# Altium schematic symbol library Fei-Fei_Power_Distro_V0.4.SchLib: 28 symbols
Pins are listed as number, name and electrical type; pins without a type are passive.

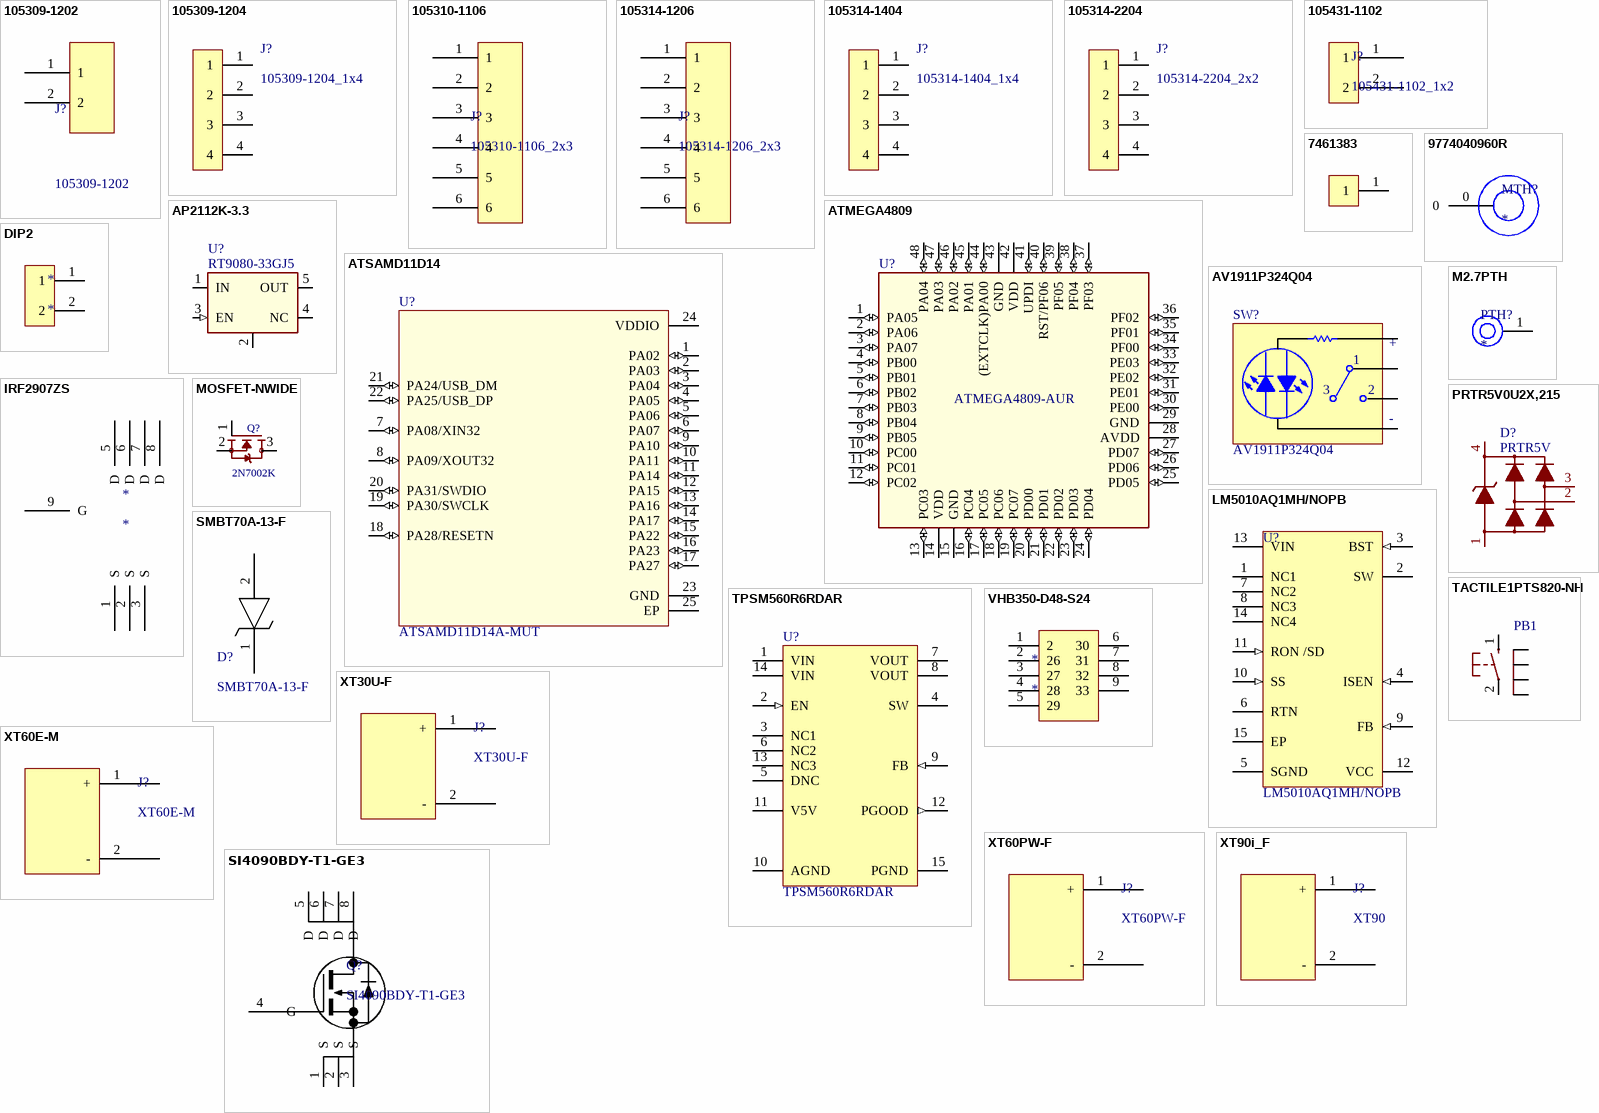
[diagram p0: symbols 105309-1202 to ‎SI4090BDY-T1-GE3‎]

## 105309-1202
designator J?
Nano-Fit Vertical Header Through Hole 2.50mm Pitch Single Row 2 Circuits with Kinked Pins 0.38; Manufacturer: Molex; Plating: Tin; Supplier 1: Digi-Key; Manufacturer Part Number: 105309-1202; RoHS: Yes; Stock 1: 190; Pricing 1: 1=1.79000, 10=1.71600, 50=1.50700, 100=1.40200 (USD); REACH SVHC: Unknown; Supplier Part Number 1: 732-7092-1-ND; Supplier 2: RSComponents; Stock 2: 1; Pricing 2: 10=0.85900 (USD); Mount: Through Hole; Contact Plating: Gold; Termination: Through Hole; Number of Rows: 1; Supplier Part Number 2: 1225076
footprint 105309-1202
pins: 1 (power), 2 (power)

## 105309-1204
designator J?, comment 105309-1204_1x4
MOLEX - 105309-1204 - CONNECTOR, HEADER, 4POS, 1ROW, 2.5MM; Gender: Male; Supplier 1: RSComponents; Manufacturer: Molex; Manufacturer Part Number: 105309-1204; Stock 1: 170; Pricing 1: 10 = 1.23200, 50 = 0.81900, 100 = 0.74700, 150 = 0.70800, 250 = 0.67400 (GBP); RoHS: No; Mount: Through Hole; Number of Pins: 4; Contact Plating: Gold; Contact Material: Brass; Color: Black; Termination: Through Hole; Number of Rows: 1; REACH SVHC: Unknown; ComponentLink1URL: http://farnell.com//datasheets/2221349.pdf?src-supplier=Farnell; ComponentLink1Description: http://farnell.com//datasheets/2221349.pdf?src-supplier=Farnell; ComponentLink2URL: http://www.farnell.com/datasheets/2059602.pdf?src-supplier=Element14; ComponentLink2Description: http://www.farnell.com/datasheets/2059602.pdf?src-supplier=Element14; ComponentLink3URL: http://www.farnell.com/datasheets/2221349.pdf?src-supplier=Newark; ComponentLink3Description: http://www.farnell.com/datasheets/2221349.pdf?src-supplier=Newark; ComponentLink4URL: http://www.literature.molex.com/SQLImages/kelmscott/Molex/PDF_Images/987651-1223.PDF?src-supplier=Digi-Key; ComponentLink4Description: http://www.literature.molex.com/SQLImages/kelmscott/Molex/PDF_Images/987651-1223.PDF?src-supplier=Digi-Key; Supplier Part Number 1: 1225078; Category: Connectors
footprint 105309-1204
pins: 1, 2, 3, 4

## 105310-1106
designator J?, comment 105310-1106_2x3
Nano-Fit Right Angle Header; Through Hole; 2.50mm; Dual Row; 6 Circuit; Gold Plating; Manufacturer: Molex; Gender: Male; Supplier 1: Digi-Key; Manufacturer Part Number: 105310-1106; RoHS: No; Category: Headers and Wire Housings; Stock 1: 10981; Pricing 1: 1=2.15000, 10=1.83000, 204=1.51162, 1020=1.19338, 5100=1.05813 (USD); Mount: Through Hole; Contact Plating: Gold; Contact Material: Brass; Color: Black; Termination: Through Hole; Number of Rows: 2; REACH SVHC: Unknown; ComponentLink1URL: http://www.farnell.com/datasheets/2221464.pdf?src-supplier=Farnell; ComponentLink1Description: http://www.farnell.com/datasheets/2221464.pdf?src-supplier=Farnell; ComponentLink2URL: http://www.farnell.com/datasheets/2221464.pdf?src-supplier=Element14; ComponentLink2Description: http://www.farnell.com/datasheets/2221464.pdf?src-supplier=Element14; ComponentLink3URL: http://www.farnell.com/datasheets/2221464.pdf?src-supplier=Newark; ComponentLink3Description: http://www.farnell.com/datasheets/2221464.pdf?src-supplier=Newark; ComponentLink4URL: https://www.molex.com/pdm_docs/ps/PS-105300-100-001.pdf?src-supplier=Digi-Key; ComponentLink4Description: https://www.molex.com/pdm_docs/ps/PS-105300-100-001.pdf?src-supplier=Digi-Key; Supplier Part Number 1: WM14977-ND
footprint 105310-1106
pins: 1, 2, 3, 4, 5, 6

## 105314-1206
designator J?, comment 105314-1206_2x3
Nano-Fit Right Angle Header; Through Hole; 2.50mm; Dual Row; 6 Circuit; Gold Plating; Manufacturer: Molex; Gender: Male; Supplier 1: Digi-Key; Manufacturer Part Number: 105314-1206; RoHS: No; Category: Headers and Wire Housings; Stock 1: 10981; Pricing 1: 1=2.15000, 10=1.83000, 204=1.51162, 1020=1.19338, 5100=1.05813 (USD); Mount: Through Hole; Contact Plating: Gold; Contact Material: Brass; Color: Black; Termination: Through Hole; Number of Rows: 2; REACH SVHC: Unknown; ComponentLink1URL: http://www.farnell.com/datasheets/2221464.pdf?src-supplier=Farnell; ComponentLink1Description: http://www.farnell.com/datasheets/2221464.pdf?src-supplier=Farnell; ComponentLink2URL: http://www.farnell.com/datasheets/2221464.pdf?src-supplier=Element14; ComponentLink2Description: http://www.farnell.com/datasheets/2221464.pdf?src-supplier=Element14; ComponentLink3URL: http://www.farnell.com/datasheets/2221464.pdf?src-supplier=Newark; ComponentLink3Description: http://www.farnell.com/datasheets/2221464.pdf?src-supplier=Newark; ComponentLink4URL: https://www.molex.com/pdm_docs/ps/PS-105300-100-001.pdf?src-supplier=Digi-Key; ComponentLink4Description: https://www.molex.com/pdm_docs/ps/PS-105300-100-001.pdf?src-supplier=Digi-Key; Supplier Part Number 1: WM14977-ND
footprint 105314-1206
pins: 1, 2, 3, 4, 5, 6

## 105314-1404
designator J?, comment 105314-1404_1x4
Manufacturer: Molex; Manufacturer Part Number: 105309-1204; Gender: Male; RoHS: No; Mount: Through Hole; Number of Pins: 4; Contact Plating: Gold; Contact Material: Brass; Color: Black; Termination: Through Hole; Number of Rows: 1; REACH SVHC: Unknown; Category: Connectors; ComponentLink1Description: Datasheet; ComponentLink1URL: https://www.molex.com/pdm_docs/sd/1053141404_sd.pdf
footprint 105314-1404
pins: 1, 2, 3, 4

## 105314-2204
designator J?, comment 105314-2204_2x2
Manufacturer: Molex; Gender: Male; Manufacturer Part Number: 105314-2204; RoHS: No; Mount: Through Hole; Number of Pins: 4; Contact Plating: Gold; Contact Material: Brass; Color: Black; Termination: Through Hole; Number of Rows: 1; REACH SVHC: Unknown; Category: Connectors; ComponentLink1Description: Datasheet; ComponentLink1URL: https://www.molex.com/pdm_docs/sd/1053141404_sd.pdf
footprint 105314-2204
pins: 1, 2, 3, 4

## 105431-1102
designator J?, comment 105431-1102_1x2
footprint 105431-1102
pins: 1, 2

## 7461383
designator T?  (value not drawn)
footprint 7461383
pins: 1

## 9774040960R
designator MTH?
Spacer Material: Steel Mounting: SMT Series: WA-SMST For ø: 3.3 mm; Manufacturer: Wurth Electronics; Manufacturer Part Number: 9774040960R; Plating: Tin; Threaded/Unthreaded: Unthreaded; Inside Diameter: 0.13inch; Outside Diameter: 0.236inch; Supplier 1: Digi-Key; RoHS: Yes; Category: Spacers, Standoffs; Stock 1: 190; Pricing 1: 1=1.79000, 10=1.71600, 50=1.50700, 100=1.40200 (USD); Material: Steel; Length: 0.213inch; REACH SVHC: Unknown; ComponentLink1URL: http://www.farnell.com/datasheets/1960394.pdf?src-supplier=Farnell; ComponentLink1Description: http://www.farnell.com/datasheets/1960394.pdf?src-supplier=Farnell; ComponentLink2URL: http://www.mouser.com/ds/2/445/9774040960R-611108.pdf?src-supplier=Mouser; ComponentLink2Description: http://www.mouser.com/ds/2/445/9774040960R-611108.pdf?src-supplier=Mouser; ComponentLink3URL: https://media.digikey.com/pdf/Data%20Sheets/Wurth%20Electronics%20PDFs/WA-SMSx_Performance_Flyer.pdf?src-supplier=Digi-Key; ComponentLink3Description: https://media.digikey.com/pdf/Data%20Sheets/Wurth%20Electronics%20PDFs/WA-SMSx_Performance_Flyer.pdf?src-supplier=Digi-Key; ComponentLink4URL: http://www.farnell.com/datasheets/1960394.pdf?src-supplier=Element14; ComponentLink4Description: http://www.farnell.com/datasheets/1960394.pdf?src-supplier=Element14; ComponentLink5URL: http://www.farnell.com/datasheets/1960394.pdf?src-supplier=Newark; ComponentLink5Description: http://www.farnell.com/datasheets/1960394.pdf?src-supplier=Newark; Supplier Part Number 1: 732-7092-1-ND
footprint 9774040960R
pins: 0

## AP2112K-3.3
designator U?, comment RT9080-33GJ5
IC REG LIN 3.3V 600MA TSOT23-5; MANUFACTURER: Richtek USA Inc.; Manufacturer Part Number: RT9080-33GJ5; Supplier 1: Digikey; Supplier Part Number 1: 1028-1509-1-ND; Value: RT9080-33GJ5
footprint TSOT-23-5 (Footprint not found)
pins: 1 IN (power), 2 GND/ADJ (power), 3 EN (in), 4 NC, 5 OUT (power)

## ATMEGA4809
designator U?, comment ATMEGA4809-AUR
IC MCU 8BIT 48KB FLASH 48TQFP; MANUFACTURER: Microchip; Alternate Part Number 1: ATMEGA4809-AFR; ComponentLink2Description: http://ww1.microchip.com/downloads/en/DeviceDoc/40002016A.pdf; Manufacturer Part Number: ATMEGA4809-AUR; Supplier Part Number 1: 150-ATMEGA4809-AURCT-ND; Value: ATMEGA4809; Supplier 1: Digikey
footprint TQFP_48 (Footprint not found)
pins: 1 PA05 (io), 2 PA06 (io), 3 PA07 (io), 4 PB00 (io), 5 PB01 (io), 6 PB02 (io), 7 PB03 (io), 8 PB04 (io), 9 PB05 (io), 10 PC00 (io), 11 PC01 (io), 12 PC02 (io), 13 PC03 (io), 14 VDD (power), 15 GND (power), 16 PC04 (io), 17 PC05 (io), 18 PC06 (io), 19 PC07 (io), 20 PD00 (io), 21 PD01 (io), 22 PD02 (io), 23 PD03 (io), 24 PD04 (io), 25 PD05 (io), 26 PD06 (io), 27 PD07 (io), 28 AVDD (power), 29 GND (power), 30 PE00 (io), 31 PE01 (io), 32 PE02 (io), 33 PE03 (io), 34 PF00 (io), 35 PF01 (io), 36 PF02 (io), 37 PF03 (io), 38 PF04 (io), 39 PF05 (io), 40 RST/PF06 (io), 41 UPDI (io), 42 VDD (power), 43 GND (power), 44 (EXTCLK)PA00 (io), 45 PA01 (io), 46 PA02 (io), 47 PA03 (io), 48 PA04 (io)

## ATSAMD11D14
designator U?, comment ATSAMD11D14A-MUT
IC MCU 32BIT 16KB FLASH 24QFN; MANUFACTURER: Microchip Technology; Manufacturer Part Number: ATSAMD11D14A-MUT; Supplier 1: Digikey; Supplier Part Number 1: ATSAMD11D14A-MUTCT-ND; Value: ATSAMD11D14A-MUT
footprint HVQFN24
pins: 1 PA02 (io), 2 PA03 (io), 3 PA04 (io), 4 PA05 (io), 5 PA06 (io), 6 PA07 (io), 7 PA08/XIN32 (io), 8 PA09/XOUT32 (io), 9 PA10 (io), 10 PA11 (io), 11 PA14 (io), 12 PA15 (io), 13 PA16 (io), 14 PA17 (io), 15 PA22 (io), 16 PA23 (io), 17 PA27 (io), 18 PA28/RESETN (io), 19 PA30/SWCLK (io), 20 PA31/SWDIO (io), 21 PA24/USB_DM (io), 22 PA25/USB_DP (io), 23 GND (power), 24 VDDIO (power), 25 EP (power)

## AV1911P324Q04
designator SW?  (mechanical)
SWITCH PUSHBUTTON SPDT 3A 250V; Manufacturer: TE Connectivity ALCOSWITCH Switches; Supplier 1: Mouser; Manufacturer Part Number: AV1911P324Q04; ComponentLink1URL: http://farnell.com//datasheets/2221349.pdf?src-supplier=Farnell; ComponentLink1Description: http://farnell.com//datasheets/2221349.pdf?src-supplier=Farnell; ComponentLink2URL: http://www.farnell.com/datasheets/2059602.pdf?src-supplier=Element14; ComponentLink2Description: http://www.farnell.com/datasheets/2059602.pdf?src-supplier=Element14; ComponentLink3URL: http://www.farnell.com/datasheets/2221349.pdf?src-supplier=Newark; ComponentLink3Description: http://www.farnell.com/datasheets/2221349.pdf?src-supplier=Newark; ComponentLink4URL: http://www.literature.molex.com/SQLImages/kelmscott/Molex/PDF_Images/987651-1223.PDF?src-supplier=Digi-Key; ComponentLink4Description: http://www.literature.molex.com/SQLImages/kelmscott/Molex/PDF_Images/987651-1223.PDF?src-supplier=Digi-Key; Value: AV1911P324Q04; Supplier Part Number 1: 506-AV1911P324Q04
text: +; 1; 3; 2; -

## DIP2
designator *
footprint DIP2
pins: 1, 2

## IRF2907ZS
designator *
pins: 1 S, 2 S, 3 S, 5 D, 6 D, 7 D, 8 D, 9 G

## LM5010AQ1MH/NOPB
designator U?
IC REG BUCK ADJ 1A 14HTSSOP; Manufacturer: Texas Instruments; Manufacturer Part Number: LM5010AQ1MH/NOPB; Supplier 1: Digikey; Supplier Part Number 1: LM5010AQ1MH/NOPB-ND; Value: LM5010AQ1MH/NOPB
footprint 14-HTSSOP (Footprint not found)
pins: 1 NC1, 2 SW, 3 BST (in), 4 ISEN (in), 5 SGND (power), 6 RTN, 7 NC2, 8 NC3, 9 FB (in), 10 SS (in), 11 RON /SD (in), 12 VCC (power), 13 VIN (power), 14 NC4, 15 EP

## M2.7PTH
designator PTH?
footprint M2.7PTH
pins: 1

## MOSFET-NWIDE
designator Q?, comment 2N7002K
MOSFET N-CH 60V 300MA SOT23; Manufacturer: onsemi; Value: 2N7002K; Manufacturer Part Number: 2N7002K; Supplier 1: Digikey; Supplier Part Number 1: 2N7002KCT-ND
footprint SOT-23-3 (Footprint not found)
pins: 1 G, 2 S, 3 D

## PRTR5V0U2X,215
designator D?, comment PRTR5V
TVS DIODE 5.5VWM SOT143B; MANUFACTURER: NXP; Manufacturer Part Number: PRTR5V0U2X,215; ComponentLink2Description: http://www.nxp.com/documents/data_sheet/PRTR5V0U2X.pdf; Supplier Part Number 1: 568-4140-1-ND; Value: PRTR5V; Supplier 1: Digikey
footprint SOT190P230X110-4N
pins: 1, 2, 3, 4

## SMBT70A-13-F
designator D?
SMBJ Series 70 V 600 W Surface Mount Uni-Directional TVS Diode - DO-214AA; Manufacturer: Diodes; Number of Terminals/Pins: 2; Package Body Material: Plastic; Diode Element Material: SILICON; Reverse Standoff Voltage: 70V; Clamping Voltage: 100V; Peak Pulse Power: 600W; Peak Pulse Current: 5.3A; Test Current: 1mA; Reverse Breakdown Voltage: 77.8V; Max Surge Current: 100A; Number of Elements: 1; Polarity: Unidirectional; Leakage Current: 5uA; Power Line Protection: No; Element Configuration: Single; Diode Type: ZENER; Max Breakdown Voltage: 89.5V; Forward Voltage: 3.5V; Capacitance: 290pF; Time @ Peak Reflow Temperature-Max (s): 30s; Supplier 1: Digi-Key; Manufacturer Part Number: SMBT70A-13-F; Stock 1: 0; Pricing 1: 1 = 0.66000, 10 = 0.56300, 100 = 0.42040, 500 = 0.33032, 1000 = 0.25526 (USD); RoHS: Yes; Mount: Surface Mount; Case/Package: SMB; Number of Pins: 2; Contact Plating: Tin,Matte; Terminal Finish: Tin; Package Shape: Rectangular; Min Operating Temperature: -55°C; Max Operating Temperature: 150°C; Package Quantity: 3000; Packaging: Tape and Reel; Min Breakdown Voltage: 77.8V; Breakdown Voltage: 77.8V; Termination: SMD/SMT; Working Voltage: 70V; Max Power Dissipation: 600W; Series: Automotive, AEC-Q101; Direction: Unidirectional; Number of Unidirectional Channels: 1; Max Reverse Leakage Current: 5uA; Resistor Type: Zener; Power Dissipation: 600W; ESD Protection: No; Clamping Voltage-Max: 100V; Max Output Current: 5.3A; Moisture Sensitivity Level: 1; JESD-30 Code: R-PDSO-C2; Surface Mount: Yes; Terminal Position: DUAL; Technology: AVALANCHE; Peak Reflow Temperature (Cel): 260°C; Terminal Form: C BEND; Length: 3.94mm; Width: 4.57mm; Height: 2.62mm; Radiation Hardening: No; RoHS Compliant: Yes; Lead Free: Lead Free; ComponentLink1URL: https://datasheet.ciiva.com/341/ds30213-341009.pdf?src-supplier=Digi-Key; ComponentLink1Description: https://datasheet.ciiva.com/341/ds30213-341009.pdf?src-supplier=Digi-Key; ComponentLink2URL: https://datasheet.ciiva.com/4511/ds30213-70999-4511094.pdf?src-supplier=Mouser; ComponentLink2Description: https://datasheet.ciiva.com/4511/ds30213-70999-4511094.pdf?src-supplier=Mouser; ComponentLink3URL: https://datasheet.ciiva.com/34302/1542506-34302445.pdf?src-supplier=Jameco; ComponentLink3Description: https://datasheet.ciiva.com/34302/1542506-34302445.pdf?src-supplier=Jameco; ComponentLink4URL: https://datasheet.ciiva.com/16487/ds30213-16487738.pdf?src-supplier=Future+Electronics; ComponentLink4Description: https://datasheet.ciiva.com/16487/ds30213-16487738.pdf?src-supplier=Future+Electronics; ComponentLink5URL: https://datasheet.ciiva.com/17412/ds30213-17412667.pdf?src-supplier=Avnet+Europe; ComponentLink5Description: https://datasheet.ciiva.com/17412/ds30213-17412667.pdf?src-supplier=Avnet+Europe; ComponentLink6URL: https://datasheet.ciiva.com/3021/ds30213-3021468.pdf?src-supplier=Avnet; ComponentLink6Description: https://datasheet.ciiva.com/3021/ds30213-3021468.pdf?src-supplier=Avnet; Supplier Part Number 1: SMBT70A-13-FDICT-ND
footprint SMBT70A-13-F
pins: 1, 2

## TACTILE1PTS820-NH
designator PB1, comment PTS820  (value not drawn)
Tactile Switch SPST-NO Top Actuated Surface Mount; MANUFACTURER: C&K; Manufacturer Part Number: PTS820 J25K SMTR LFS; ComponentLink2Description: http://www.ckswitches.com/media/1474/pts820.pdf; Supplier Part Number 1: PTS820 J25K SMTR LFS-ND; Value: PTS820; Supplier 1: Digikey
footprint C&K_PTS820_NO_HOLES
pins: 1, 2, 3 SH1 (power), 4 SH2 (power), 5 SH3 (power), 6 SH4 (power)

## TPSM560R6RDAR
designator U?
4.2-V TO 60-V INPUT, 1-V TO 6-V; Manufacturer: Texas Instruments; Manufacturer Part Number: TPSM560R6RDAR; Supplier 1: Digikey; Supplier Part Number 1: 296-TPSM560R6RDARCT-ND; Value: TPSM560R6RDAR
footprint 15-B3QFN (Footprint not found)
pins: 1 VIN (power), 2 EN (in), 3 NC1, 4 SW, 5 DNC, 6 NC2, 7 VOUT (power), 8 VOUT (power), 9 FB (in), 10 AGND (power), 11 V5V (power), 12 PGOOD (out), 13 NC3, 14 VIN (power), 15 PGND (power)

## VHB350-D48-S24
designator *
ComponentLink1Description: Datasheet; ComponentLink1URL: https://www.vishay.com/docs/63035/si4090bdy.pdf
footprint VHB350
pins: 1 2, 2 26, 3 27, 4 28, 5 29, 6 30, 7 31, 8 32, 9 33

## XT30U-F
designator J?
Manufacturer Link: https://www.tme.eu/gb/details/xt60pw-f/dc-power-connectors/amass/?brutto=1&currency=GBP&gclid=Cj0KCQjwz8emBhDrARIsANNJjS53ShuwMtc7PxX_PGoXGRRVbNHpUt3m1mLshKeAqDpjTqScIuL4RFoaApfkEALw_wcB
footprint XT30U-F (XT30U-F - Checked by MEK on 9/12/2023)
pins: 1 +, 2 -

## XT60E-M
designator J?
footprint XT60E-M (XT60M  MEK - 12OCT21)
pins: 1 +, 2 -

## XT60PW-F
designator J?
Manufacturer Link: https://www.tme.eu/gb/details/xt60pw-f/dc-power-connectors/amass/?brutto=1&currency=GBP&gclid=Cj0KCQjwz8emBhDrARIsANNJjS53ShuwMtc7PxX_PGoXGRRVbNHpUt3m1mLshKeAqDpjTqScIuL4RFoaApfkEALw_wcB
footprint XT60PW_F (XT60PW_F  ; CHECKED BY DN_TN - 23NOV21, CHECKED BY DN_AV - 24NOV21)
pins: 1 +, 2 -

## XT90i_F
designator J?, comment XT90
footprint XT90i_F
pins: 1 +, 2 -

## ‎SI4090BDY-T1-GE3‎
designator Q?, comment SI4090BDY-T1-GE3
ComponentLink1Description: New link; ComponentLink1URL: *; Supplier 1: Digi-Key; Supplier Part Number 1: 742-SI4090BDY-T1-GE3CT-ND; Manufacturer Part Number: SI4090BDY-T1-GE3
footprint SOIC127P600X175-8N (SOIC, 8-Leads, Body 4.90x3.90mm, Pitch 1.27mm, IPC Medium Density)
pins: 1 S, 2 S, 3 S, 4 G, 5 D, 6 D, 7 D, 8 D